# Altium integrated library test-mate.IntLib: 3 symbols
Pins are listed as number, name and electrical type; pins without a type are passive.

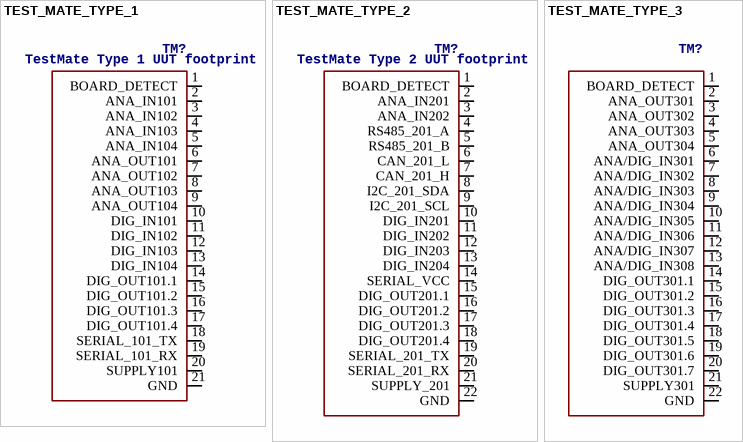
[diagram p0: symbols TEST_MATE_TYPE_1 to TEST_MATE_TYPE_3]

## TEST_MATE_TYPE_1
designator TM?, comment TestMate Type 1 UUT footprint
footprint TEST_MATE_TYPE_1
pins: 1 BOARD_DETECT, 2 ANA_IN101, 3 ANA_IN102, 4 ANA_IN103, 5 ANA_IN104, 6 ANA_OUT101, 7 ANA_OUT102, 8 ANA_OUT103, 9 ANA_OUT104, 10 DIG_IN101, 11 DIG_IN102, 12 DIG_IN103, 13 DIG_IN104, 14 DIG_OUT101.1, 15 DIG_OUT101.2, 16 DIG_OUT101.3, 17 DIG_OUT101.4, 18 SERIAL_101_TX, 19 SERIAL_101_RX, 20 SUPPLY101, 21 GND

## TEST_MATE_TYPE_2
designator TM?, comment TestMate Type 2 UUT footprint
footprint TEST_MATE_TYPE_2
pins: 1 BOARD_DETECT, 2 ANA_IN201, 3 ANA_IN202, 4 RS485_201_A, 5 RS485_201_B, 6 CAN_201_L, 7 CAN_201_H, 8 I2C_201_SDA, 9 I2C_201_SCL, 10 DIG_IN201, 11 DIG_IN202, 12 DIG_IN203, 13 DIG_IN204, 14 SERIAL_VCC, 15 DIG_OUT201.1, 16 DIG_OUT201.2, 17 DIG_OUT201.3, 18 DIG_OUT201.4, 19 SERIAL_201_TX, 20 SERIAL_201_RX, 21 SUPPLY_201, 22 GND

## TEST_MATE_TYPE_3
designator TM?
footprint TEST_MATE_TYPE_3
pins: 1 BOARD_DETECT, 2 ANA_OUT301, 3 ANA_OUT302, 4 ANA_OUT303, 5 ANA_OUT304, 6 ANA/DIG_IN301, 7 ANA/DIG_IN302, 8 ANA/DIG_IN303, 9 ANA/DIG_IN304, 10 ANA/DIG_IN305, 11 ANA/DIG_IN306, 12 ANA/DIG_IN307, 13 ANA/DIG_IN308, 14 DIG_OUT301.1, 15 DIG_OUT301.2, 16 DIG_OUT301.3, 17 DIG_OUT301.4, 18 DIG_OUT301.5, 19 DIG_OUT301.6, 20 DIG_OUT301.7, 21 SUPPLY301, 22 GND